# EAGLE library part SAMD21G18A-ARDUINO (library Komponenter)
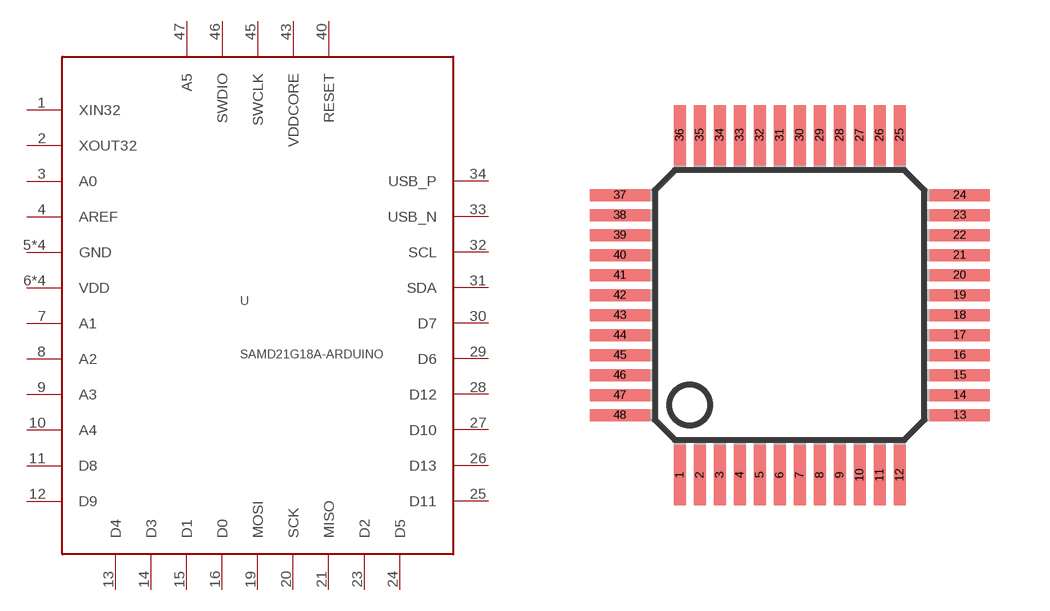
[diagram p1: symbol with the pads of TQFP48; footprint TQFP48]

Designator prefix -

## SAMD21G18A-ARDUINO  [TQFP48]
1  XIN32
2  XOUT32
3  A0
4  AREF
5  GND  pwr
6  VDD  pwr
7  A1
8  A2
9  A3
10  A4
11  D8
12  D9
13  D4
14  D3
15  D1
16  D0
17  VDD  pwr
18  GND  pwr
19  MOSI
20  SCK
21  MISO
23  D2
24  D5
25  D11
26  D13
27  D10
28  D12
29  D6
30  D7
31  SDA
32  SCL
33  USB_N
34  USB_P
35  GND  pwr
36  VDD  pwr
40  RESET  in
42  GND  pwr
43  VDDCORE  pwr
44  VDD  pwr
45  SWCLK
46  SWDIO
47  A5

## Footprint TQFP48 (pad centres in mm)
Thin Quad Flat Pack
smd 0.3 x 1.5: 1 -2.75,-4.25; 2 -2.25,-4.25; 3 -1.75,-4.25; 4 -1.25,-4.25; 5 -0.75,-4.25; 6 -0.25,-4.25; 7 0.25,-4.25; 8 0.75,-4.25; 9 1.25,-4.25; 10 1.75,-4.25; 11 2.25,-4.25; 12 2.75,-4.25; 25 2.75,4.25; 26 2.25,4.25; 27 1.75,4.25; 28 1.25,4.25; 29 0.75,4.25; 30 0.25,4.25; 31 -0.25,4.25; 32 -0.75,4.25; 33 -1.25,4.25; 34 -1.75,4.25; 35 -2.25,4.25; 36 -2.75,4.25
smd 1.5 x 0.3: 13 4.25,-2.75; 14 4.25,-2.25; 15 4.25,-1.75; 16 4.25,-1.25; 17 4.25,-0.75; 18 4.25,-0.25; 19 4.25,0.25; 20 4.25,0.75; 21 4.25,1.25; 22 4.25,1.75; 23 4.25,2.25; 24 4.25,2.75; 37 -4.25,2.75; 38 -4.25,2.25; 39 -4.25,1.75; 40 -4.25,1.25; 41 -4.25,0.75; 42 -4.25,0.25; 43 -4.25,-0.25; 44 -4.25,-0.75; 45 -4.25,-1.25; 46 -4.25,-1.75; 47 -4.25,-2.25; 48 -4.25,-2.75